# Altium schematic symbol library UCLAMP0504A.SchLib: 1 symbol
Pins are listed as number, name and electrical type; pins without a type are passive.

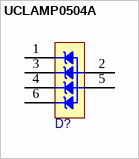
[diagram p0: symbol UCLAMP0504A]

## UCLAMP0504A
designator D?  (value not drawn)
pins: 1, 2, 3, 4, 5, 6